# Altium footprint library 20072631.PcbLib: 1 footprints
Each footprint in its own frame and in the unit in brackets; x right, y up, seen from the top. Pads: shape width x height; smd on the part's side, far side on the other; paste and mask are expansions set on the pad; w line width, h text height; cw(c..) or ccw(c..) is an arc to the next point about the centre after c.
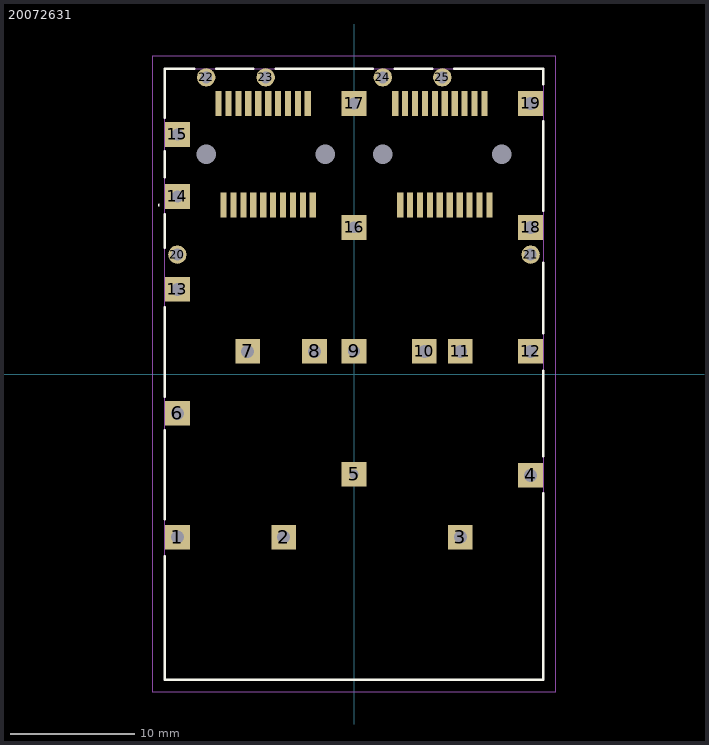
[diagram p0: the footprint, top view; thin cyan lines are the x and y axes]

## 20072631 [mm]
pads (69):
  rect 2x2 hole 1.05: 1(-14.25,-13.15) 2(-5.675,-13.15) 3(8.575,-13.15) 4(14.25,-8.15) 6(-14.25,-3.15) 7(-8.575,1.85) 8(-3.175,1.85) 10(5.675,1.85) 11(8.575,1.85) 12(14.25,1.85) 13(-14.25,6.85) 18(14.25,11.85) 19(14.25,21.85)
  rect 2x2 hole 0.75: 5(0,-8.07)
  rect 2x2 hole 0.95: 9(0,1.85) 14(-14.25,14.35) 15(-14.25,19.35) 16(0,11.85) 17(0,21.85)
  round 1.478 hole 0.95: 20(-14.25,9.65) 21(14.25,9.65) 22(-11.925,23.95) 23(-7.125,23.95) 24(2.325,23.95) 25(7.125,23.95)
  rect 0.5x2 smd: A1(-10.525,13.65) A2(-9.725,13.65) A3(-8.925,13.65) A4(-8.125,13.65) A5(-7.325,13.65) A6(-6.525,13.65) A7(-5.725,13.65) A8(-4.925,13.65) A9(-4.125,13.65) A10(-3.325,13.65) A11(-3.725,21.85) A12(-4.525,21.85) A13(-5.325,21.85) A14(-6.125,21.85) A15(-6.925,21.85) A16(-7.725,21.85) A17(-8.525,21.85) A18(-9.325,21.85) A19(-10.125,21.85) A20(-10.925,21.85) B1(3.725,13.65) B2(4.525,13.65) B3(5.325,13.65) B4(6.125,13.65) B5(6.925,13.65) B6(7.725,13.65) B7(8.525,13.65) B8(9.325,13.65) B9(10.125,13.65) B10(10.925,13.65) B11(10.525,21.85) B12(9.725,21.85) B13(8.925,21.85) B14(8.125,21.85) B15(7.325,21.85) B16(6.525,21.85) B17(5.725,21.85) B18(4.925,21.85) B19(4.125,21.85) B20(3.325,21.85)
  round 0.775 hole 1.55 unplated: MH1(-11.925,17.75) MH2(-2.325,17.75) MH3(2.325,17.75) MH4(11.925,17.75)
Top Overlay:
  lines w0.1: -15.8,13.65 -15.8,13.65 ; -15.8,13.65 ccw(c-15.75,13.65) -15.7,13.65 ; -15.8,13.65 cw(c-15.75,13.65) -15.7,13.65 ; -15.7,13.65 -15.7,13.65
  lines w0.2: -15.25,-14.7 -15.25,-24.65 15.25,-24.65 15.25,-9.6 ; -15.25,-11.7 -15.25,-4.5 ; -15.25,-1.8 -15.25,5.4 ; -15.25,10.2 -15.25,12.9 ; -15.25,15.9 -15.25,18 ; -15.25,20.7 -15.25,24.65 -12.9,24.65 ; -11.1,24.65 -8.125,24.65 ; -6.3,24.65 1.5,24.65 ; 3.3,24.65 6.3,24.65 ; 8.1,24.65 15.25,24.65 15.25,23.4 ; 15.25,-6.6 15.25,0.3 ; 15.25,3.3 15.25,9 ; 15.25,13.2 15.25,20.4
Mechanical 15:
  lines w0.1: -15.25,-24.65 15.25,-24.65 15.25,24.65 -15.25,24.65 -15.25,-24.65
Mechanical 20:
  lines w0.1: -16.25,-25.65 16.25,-25.65 16.25,25.689 -16.25,25.689 -16.25,-25.65